# EAGLE library part 6U8-P (library pedals-tubes)
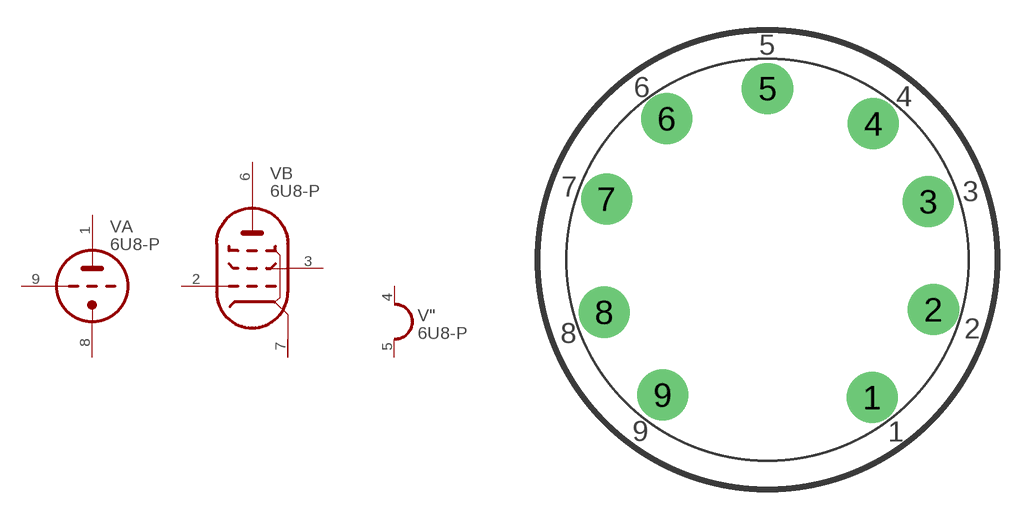
[diagram p37: symbol with the pads of NOVAL; footprint NOVAL]

Designator prefix V; gates A=TRIODE "=HEATER_1 B=PENTODE

## 6U8-P  [NOVAL]
1  A:TA  pas
2  B:PG  pas
3  B:PSG  pas
4  ":H1  pas
5  ":H2  pas
6  B:PA  pas
7  B:PK  pas
8  A:TK  pas
9  A:TG  pas

## Footprint NOVAL (pad centres in mm)
drill 1.422 pad 2.54: 1 5.207,-6.858; 2 8.254,-2.484; 3 8.004,2.893; 4 5.258,6.77; 5 0,8.524; 6 -5.004,7.024; 7 -8.004,3.02; 8 -8.127,-2.611; 9 -5.207,-6.731